# Altium footprint library 4GBJ406F.PCBLIB: 1 footprints
Each footprint in its own frame and in the unit in brackets; x right, y up, seen from the top. Pads: shape width x height; smd on the part's side, far side on the other; paste and mask are expansions set on the pad; w line width, h text height; cw(c..) or ccw(c..) is an arc to the next point about the centre after c.
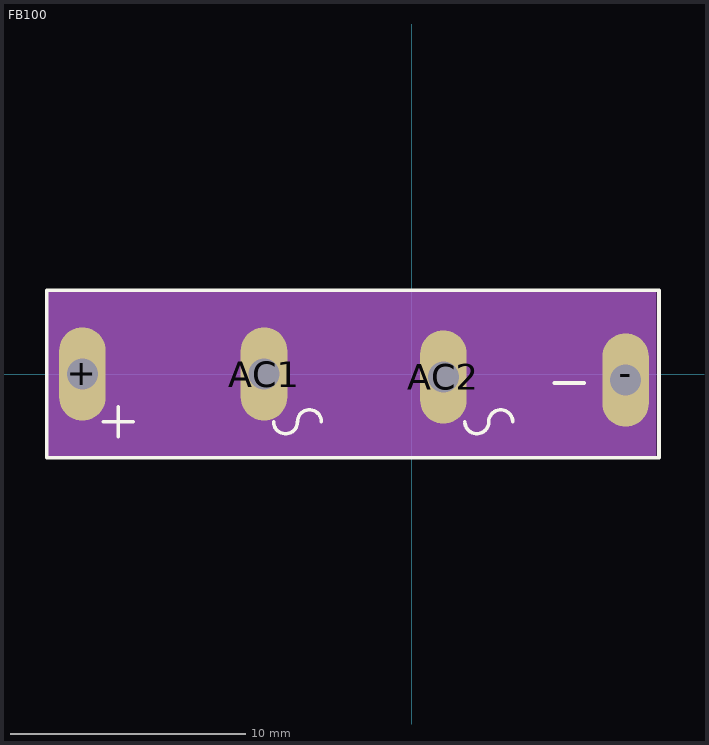
[diagram p0: the footprint, top view; thin cyan lines are the x and y axes]

## FB100 [mil]
pads (4):
  oval 78x156 hole 52: +(-551.18,0) -(358,-10) AC1(-247.18,0) AC2(53,-5)
Top Overlay:
  lines w6: -516.18,-80 -466.18,-80 ; -491.18,-105 -491.18,-55 ; -231.18,-80 ccw(c-211.18,-80) -191.18,-80 cw(c-171.18,-80) -151.18,-80 ; 89,-80 ccw(c109,-80) 129,-80 cw(c149,-80) 169,-80 ; 239,-15 289,-15 ; -611.18,-140 414,-140 414,140 -611.18,140 -611.18,-140
Mechanical 10:
  rectangle: -610,-140 410,140